# Altium footprint library Huan.PcbLib: 34 footprints (part 2 of 3)
Each footprint in its own frame and in the unit in brackets; x right, y up, seen from the top. Pads: shape width x height; smd on the part's side, far side on the other; paste and mask are expansions set on the pad; w line width, h text height; cw(c..) or ccw(c..) is an arc to the next point about the centre after c.
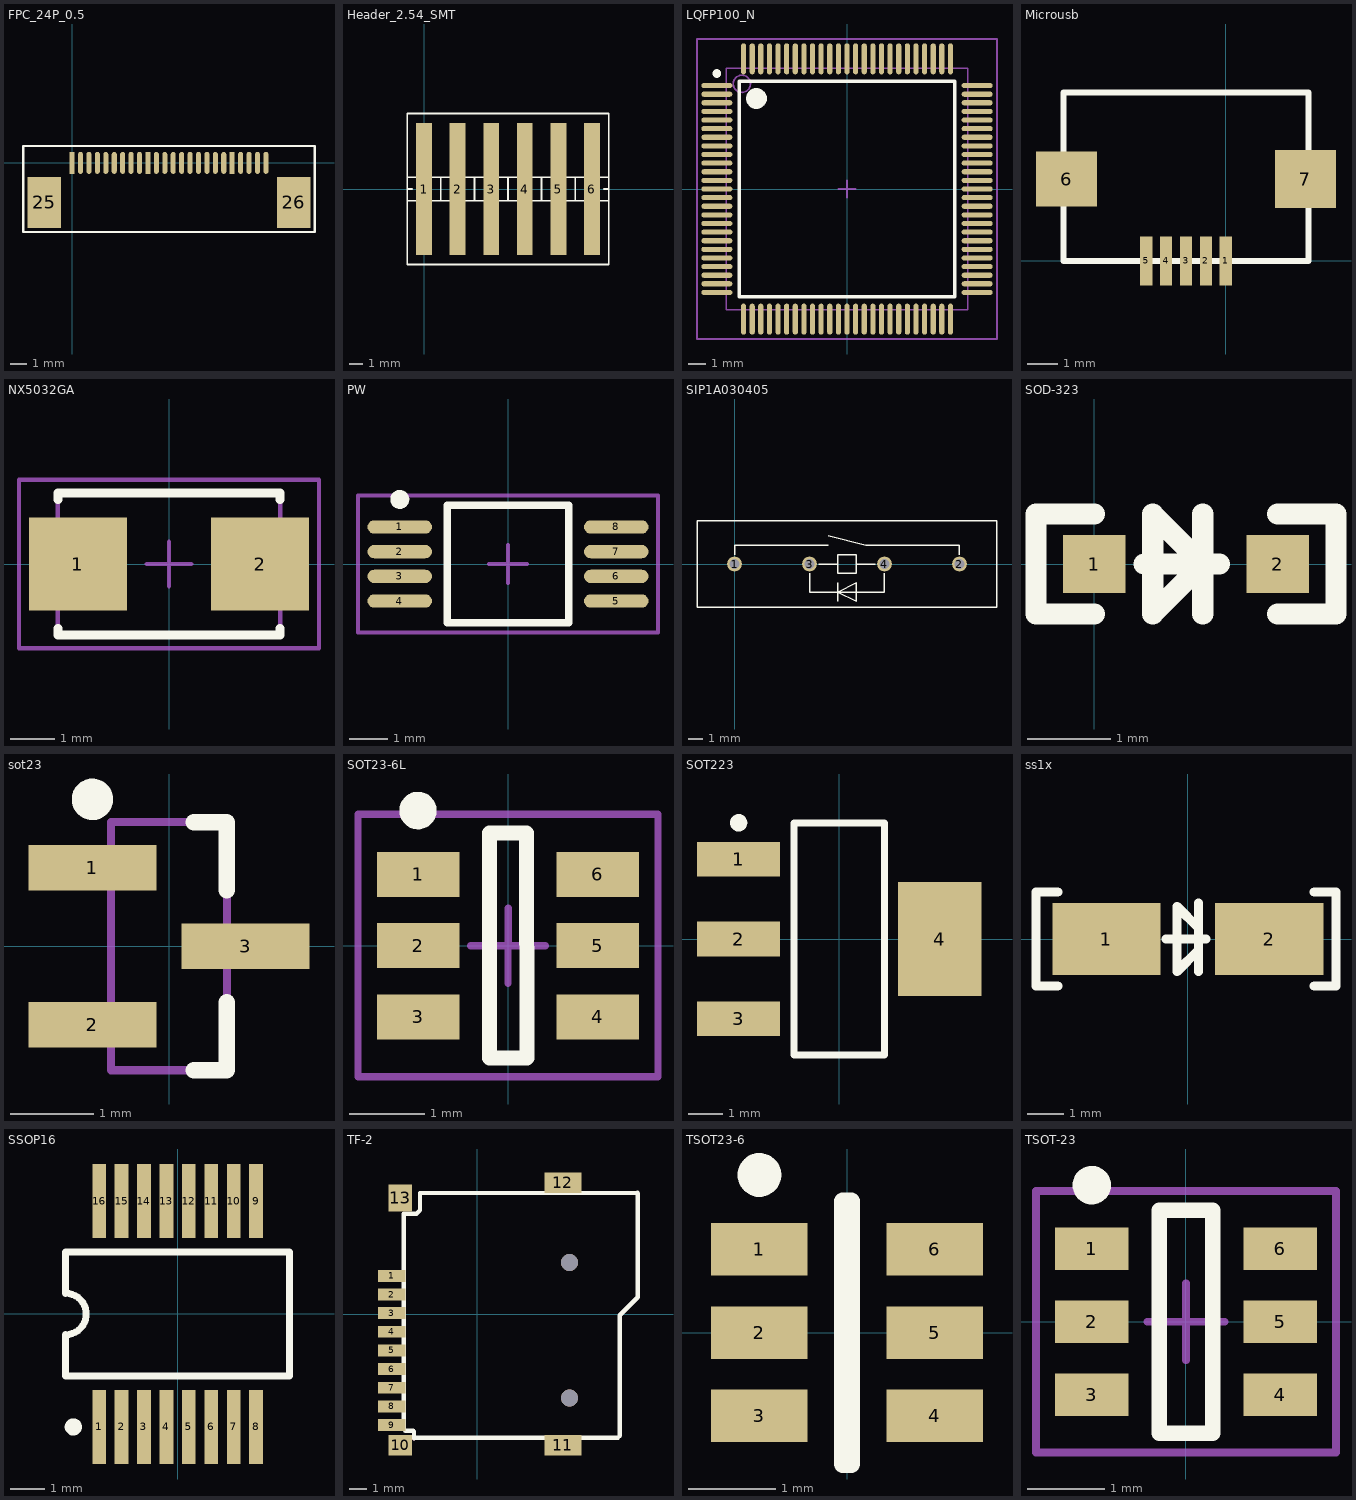
[diagram p1: the footprints below, top view; thin cyan lines are the x and y axes]

## FPC_24P_0.5 [mm]
pads (26):
  rect 0.3x1.3 smd: 1(0,0) 10(4.5,0) 20(9.5,0)
  oval 0.3x1.3 smd: 2(0.5,0) 3(1,0) 4(1.5,0) 5(2,0) 6(2.5,0) 7(3,0) 8(3.5,0) 9(4,0) 11(5,0) 12(5.5,0) 13(6,0) 14(6.5,0) 15(7,0) 16(7.5,0) 17(8,0) 18(8.5,0) 19(9,0) 21(10,0) 22(10.5,0) 23(11,0) 24(11.5,0)
  rect 2x3 smd: 25(-1.65,-2.35) 26(13.15,-2.35)
Top Overlay:
  lines w0.127: 14.4,0.4 14.4,1 ; 14.4,1 14.4,0.8 14.4,-4.1 -2.9,-4.1 -2.9,-1 -2.9,1 14.4,1
3D body: height 1.2, standoff 0, extent -2.71,-3.861 14.19,-0.411

## Header_2.54_SMT [mm]
pads (6):
  rect 1.2x10 smd: 1(0,0) 2(2.54,0) 3(5.08,0) 4(7.62,0) 5(10.16,0) 6(12.7,0)
Top Overlay:
  lines w0.127: -1.27,-0.889 13.97,-0.889 ; -1.27,0 -0.889,0 ; -1.27,0.889 13.97,0.889 ; 1.27,-0.889 1.27,0.889 ; 3.81,-0.889 3.81,0.889 ; 6.35,-0.889 6.35,0.889 ; 8.89,-0.889 8.89,0.889 ; 11.43,-0.889 11.43,0.889 ; -1.27,-5.715 -1.27,5.715 13.97,5.715 13.97,-5.715 -1.27,-5.715 ; 13.589,0 13.97,0 13.589,0
3D body: height 12.14, standoff -0.01, extent -1.295,-1.321 13.945,1.219

## LQFP100_N [mm] "Thin QFP, 100-Leads, Body 14x14mm, Pitch 0.5mm, IPC Medium Density"
height 1.6
pads (100):
  oval 1.8x0.3 smd: 1(-7.55,6) 2(-7.55,5.5) 3(-7.55,5) 4(-7.55,4.5) 5(-7.55,4) 6(-7.55,3.5) 7(-7.55,3) 8(-7.55,2.5) 9(-7.55,2) 10(-7.55,1.5) 11(-7.55,1) 12(-7.55,0.5) 13(-7.55,0) 14(-7.55,-0.5) 15(-7.55,-1) 16(-7.55,-1.5) 17(-7.55,-2) 18(-7.55,-2.5) 19(-7.55,-3) 20(-7.55,-3.5) 21(-7.55,-4) 22(-7.55,-4.5) 23(-7.55,-5) 24(-7.55,-5.5) 25(-7.55,-6) 51(7.55,-6) 52(7.55,-5.5) 53(7.55,-5) 54(7.55,-4.5) 55(7.55,-4) 56(7.55,-3.5) 57(7.55,-3) 58(7.55,-2.5) 59(7.55,-2) 60(7.55,-1.5) 61(7.55,-1) 62(7.55,-0.5) 63(7.55,0) 64(7.55,0.5) 65(7.55,1) 66(7.55,1.5) 67(7.55,2) 68(7.55,2.5) 69(7.55,3) 70(7.55,3.5) 71(7.55,4) 72(7.55,4.5) 73(7.55,5) 74(7.55,5.5) 75(7.55,6)
  oval 0.3x1.8 smd: 26(-6,-7.55) 27(-5.5,-7.55) 28(-5,-7.55) 29(-4.5,-7.55) 30(-4,-7.55) 31(-3.5,-7.55) 32(-3,-7.55) 33(-2.5,-7.55) 34(-2,-7.55) 35(-1.5,-7.55) 36(-1,-7.55) 37(-0.5,-7.55) 38(0,-7.55) 39(0.5,-7.55) 40(1,-7.55) 41(1.5,-7.55) 42(2,-7.55) 43(2.5,-7.55) 44(3,-7.55) 45(3.5,-7.55) 46(4,-7.55) 47(4.5,-7.55) 48(5,-7.55) 49(5.5,-7.55) 50(6,-7.55) 76(6,7.55) 77(5.5,7.55) 78(5,7.55) 79(4.5,7.55) 80(4,7.55) 81(3.5,7.55) 82(3,7.55) 83(2.5,7.55) 84(2,7.55) 85(1.5,7.55) 86(1,7.55) 87(0.5,7.55) 88(0,7.55) 89(-0.5,7.55) 90(-1,7.55) 91(-1.5,7.55) 92(-2,7.55) 93(-2.5,7.55) 94(-3,7.55) 95(-3.5,7.55) 96(-4,7.55) 97(-4.5,7.55) 98(-5,7.55) 99(-5.5,7.55) 100(-6,7.55)
Top Overlay:
  circle w0.6: c-5.25,5.25 r0.3
  circle w0.25: c-7.55,6.7 r0.125
  lines w0.2: -6.25,-6.25 6.25,-6.25 6.25,6.25 -6.25,6.25 -6.25,-6.25
Mechanical 13:
  circle w0.1: c-6.1,6.1 r0.5
  lines w0.1: -7,-7 7,-7 7,7 -7,7 -7,-7
Mechanical 15:
  lines w0.1: -0.5,0 0.5,0 ; 0,-0.5 0,0.5 ; -8.7,-8.7 8.7,-8.7 8.7,8.7 -8.7,8.7 -8.7,-8.7
3D body: height 1.6, standoff 0, extent -7,-7 7,7

## Microusb [mm]
pads (7):
  rect 0.4x1.6 smd: 1(0,0) 2(-0.65,0) 3(-1.3,0) 4(-1.95,0) 5(-2.6,0)
  rect 2x1.8 smd: 6(-5.2,2.675)
  rect 2x1.9 smd: 7(2.6,2.675)
Top Overlay:
  lines w0.2: -5.3,0 -5.3,5.5 2.7,5.5 2.7,0 -5.3,0
3D body: height 3, standoff 3, extent -5.4,-0.1 2.8,5.6
3D body: height 3.38, standoff 0.08, extent -5.385,0.508 2.815,5.938

## NX5032GA [mm]
height 1.3
pads (2):
  rect 2.2x2.1 smd: 1(-2.05,0) 2(2.05,0)
Top Overlay:
  lines w0.2: -2.5,-1.45 -2.5,-1.6 2.5,-1.6 2.5,-1.45 ; -2.5,1.45 -2.5,1.6 2.5,1.6 2.5,1.45
Mechanical 13:
  lines w0.1: -2.5,-1.6 -2.5,1.6 2.5,1.6 2.5,-1.6 -2.5,-1.6
Mechanical 15:
  lines w0.1: -0.5,0 0.5,0 ; 0,-0.5 0,0.5 ; -3.375,-1.9 -3.375,1.9 3.375,1.9 3.375,-1.9 -3.375,-1.9
3D body: height 1.3, standoff 0, extent -2.5,-1.6 2.5,1.6

## PW [mm] "TSOP, 8-Leads, Body 3.1x4.5mm (max), Pitch 0.65mm, IPC Medium Density"
height 1.2
pads (8):
  oval 1.7x0.35 smd: 1(-2.85,0.975) 2(-2.85,0.325) 3(-2.85,-0.325) 4(-2.85,-0.975) 5(2.85,-0.975) 6(2.85,-0.325) 7(2.85,0.325) 8(2.85,0.975)
Top Overlay:
  circle w0.25: c-2.85,1.7 r0.125
  lines w0.2: -1.6,-1.55 -1.6,1.55 1.6,1.55 1.6,-1.55 -1.6,-1.55
Mechanical 15:
  lines w0.1: -0.5,0 0.5,0 ; 0,-0.5 0,0.5 ; -3.95,-1.8 -3.95,1.8 3.95,1.8 3.95,-1.8 -3.95,-1.8
3D body: height 1.05, standoff -0.05, extent -2.449,-1.501 2.551,1.499

## SIP1A030405 [mm] "干簧管继电器"
pads (4):
  round 1 hole 0.7: 1(0,0) 2(15.24,0) 3(5.08,0) 4(10.16,0)
Top Overlay:
  lines w0.102: 0,0.635 0,1.27 6.35,1.27 ; 5.08,-0.635 5.08,-1.905 10.16,-1.905 10.16,-0.635 ; 5.715,0 6.985,0 6.985,0.635 ; 6.35,1.905 8.89,1.27 15.24,1.27 15.24,0.635 ; 6.985,-2.54 6.985,-1.27 ; 8.255,0 9.525,0 ; 6.985,0.635 7.62,0.635 8.255,0.635 8.255,-0.635 7.62,-0.635 6.985,-0.635 6.985,-0.381 6.985,0.635 ; -2.54,-2.921 17.78,-2.921 17.78,2.921 -2.54,2.921 -2.54,-2.921 ; 6.985,-1.905 8.255,-1.27 8.255,-2.54 6.985,-1.905
3D body: height 8.38, standoff -2.42, extent -2.413,-3.048 17.587,3.052

## SOD-323 [mm]
pads (2):
  rect 0.75x0.7 smd: 1(0,0) 2(2.2,0)
Top Overlay:
  lines w0.254: 0,-0.6 -0.7,-0.6 -0.7,0.6 0,0.6 ; 0.6,0 1.5,0 ; 1.3,-0.6 1.3,0.6 ; 2.2,-0.6 2.9,-0.6 2.9,0.6 2.2,0.6 ; 0.7,-0.6 0.7,0.6 1.3,0 0.7,-0.6
3D body: height 1.1, standoff 0, extent -0.203,-0.664 2.397,0.686

## sot23 [mm] "SOT23, 3-Leads, Body 3.0x2.6mm (max), Pitch 0.95mm, IPC Medium Density"
height 1.1
pads (3):
  rect 1.55x0.55 smd: 1(-0.925,0.95) 2(-0.925,-0.95) 3(0.925,0)
Top Overlay:
  circle w0.25: c-0.925,1.775 r0.125
  lines w0.2: 0.3,-1.5 0.7,-1.5 0.7,-0.675 ; 0.3,1.5 0.7,1.5 0.7,0.675
Mechanical 13:
  lines w0.1: -0.7,-1.5 0.7,-1.5 0.7,1.5 -0.7,1.5 -0.7,-1.5
3D body: height 1.3, standoff 0, extent -1.4,-1.452 1.4,1.448

## SOT23-6L [mm] "SOT23, 6-Leads, Body 3.0x3.0mm (max), Pitch 0.95mm, IPC Medium Density"
height 0.9
pads (6):
  rect 1.1x0.6 smd: 1(-1.2,0.95) 2(-1.2,0) 3(-1.2,-0.95) 4(1.2,-0.95) 5(1.2,0) 6(1.2,0.95)
Top Overlay:
  circle w0.25: c-1.2,1.8 r0.125
  lines w0.2: -0.25,-1.5 -0.25,1.5 0.25,1.5 0.25,-1.5 -0.25,-1.5
Mechanical 15:
  lines w0.1: -0.5,0 0.5,0 ; 0,-0.5 0,0.5 ; -2,-1.75 2,-1.75 2,1.75 -2,1.75 -2,-1.75
3D body: height 1.45, standoff 0, extent -1.4,-1.473 1.4,1.427

## SOT223 [mm] "SOT223, 4-Leads, Body 6.7x7.3mm (max), Pitch 2.30mm, IPC Medium Density"
height 1.8
pads (4):
  rect 2.4x1 smd: 1(-2.9,2.3) 2(-2.9,0) 3(-2.9,-2.3)
  rect 2.4x3.3 smd: 4(2.9,0)
Top Overlay:
  circle w0.25: c-2.9,3.35 r0.125
  lines w0.2: -1.3,-3.35 1.3,-3.35 1.3,3.35 -1.3,3.35 -1.3,-3.35
3D body: height 1.6, standoff -0.05, extent -3.5,-3.249 3.5,3.251

## ss1x [mm]
pads (2):
  rect 3x2 smd: 1(-2.25,0) 2(2.25,0)
Top Overlay:
  lines w0.254: -3.6,-1.3 -4.2,-1.3 -4.2,1.3 -3.6,1.3 ; -0.6,0 0.5,0 ; 0.3,-0.9 0.3,1 ; 3.5,-1.3 4.1,-1.3 4.1,1.3 3.5,1.3 ; -0.3,-0.9 -0.3,0.9 0.3,0.3 0.3,0 0.3,-0.3 -0.3,-0.9
3D body: height 1.94, standoff -0.05, extent -2.464,-1.27 2.466,1.27

## SSOP16 [mm] "SSOP, Plastic; 16 Leads; Body Width 5.3 mm; Pitch 0.65 mm"
height 2
pads (16):
  rect 0.4x2.15 smd: 1(-2.275,-3.275) 2(-1.625,-3.275) 3(-0.975,-3.275) 4(-0.325,-3.275) 5(0.325,-3.275) 6(0.975,-3.275) 7(1.625,-3.275) 8(2.275,-3.275) 9(2.275,3.275) 10(1.625,3.275) 11(0.975,3.275) 12(0.325,3.275) 13(-0.325,3.275) 14(-0.975,3.275) 15(-1.625,3.275) 16(-2.275,3.275)
Top Overlay:
  circle w0.25: c-3.025,-3.275 r0.125
  lines w0.2: -3.25,-1.8 3.25,-1.8 3.25,1.8 -3.25,1.8 -3.25,0.6 cw(c-3.25,0) -3.25,-0.6 -3.25,-1.8
3D body: height 2, standoff 0, extent -2.489,-3.048 2.511,3.352

## TF-2 [mm]
pads (13):
  rect 1.6x0.7 smd: 1(-5.05,2.25) 2(-5.05,1.15) 3(-5.05,0.05) 4(-5.05,-1.05) 5(-5.05,-2.15) 6(-5.05,-3.25) 7(-5.05,-4.35) 8(-5.05,-5.45) 9(-5.05,-6.55)
  rect 1.4x1.2 smd: 10(-4.55,-7.75)
  rect 2.2x1.2 smd: 11(5.05,-7.75) 12(5.05,7.75)
  rect 1.4x1.6 smd: 13(-4.55,6.85)
via 5.45,3.05 diameter 1 hole 1
via 5.45,-4.95 diameter 1 hole 1
Top Layer:
  lines w0.254: -3.738,-7.344 -3.688,-7.293
Top Overlay:
  lines w0.254: -3.738,-7.344 -3.738,-6.937 -3.789,-6.886 -4.246,-6.886 -4.348,-6.785 -4.348,5.915 -3.586,5.915 -3.383,6.118 -3.383,7.134 9.45,7.15 ; -3.688,-7.293 8.301,-7.293 8.403,-7.191 8.403,-0.079 9.47,0.988 9.47,7.13
3D body: height 1.85, standoff -0.6, extent -5.827,-8 9.423,8

## TSOT23-6 [mm]
height 0.9
pads (6):
  rect 1.1x0.6 smd: 1(-1,0.95) 2(-1,0) 3(-1,-0.95) 4(1,-0.95) 5(1,0) 6(1,0.95)
Top Overlay:
  circle w0.25: c-1,1.8 r0.125
  lines w0.2: -0.05,-1.5 -0.05,1.5 0.05,1.5 0.05,-1.5 -0.05,-1.5
3D body: height 1, standoff 0, extent -1.412,-1.452 1.412,1.448

## TSOT-23 [mm] "SOT23, 6-Leads, Body 2.9x2.8mm (max), Pitch 0.95mm, IPC Medium Density"
height 1
pads (6):
  rect 0.95x0.55 smd: 1(-1.225,0.95) 2(-1.225,0) 3(-1.225,-0.95) 4(1.225,-0.95) 5(1.225,0) 6(1.225,0.95)
Top Overlay:
  circle w0.25: c-1.225,1.775 r0.125
  lines w0.2: -0.35,-1.45 0.35,-1.45 0.35,1.45 -0.35,1.45 -0.35,-1.45
Mechanical 15:
  lines w0.1: -0.5,0 0.5,0 ; 0,-0.5 0,0.5 ; -1.95,-1.7 -1.95,1.7 1.95,1.7 1.95,-1.7 -1.95,-1.7
3D body: height 0.86, standoff 0, extent -1.354,-1.501 1.456,1.499